# Altium footprint library Resistor.PcbLib: 22 footprints (part 1 of 2)
Each footprint in its own frame and in the unit in brackets; x right, y up, seen from the top. Pads: shape width x height; smd on the part's side, far side on the other; paste and mask are expansions set on the pad; w line width, h text height; cw(c..) or ccw(c..) is an arc to the next point about the centre after c.
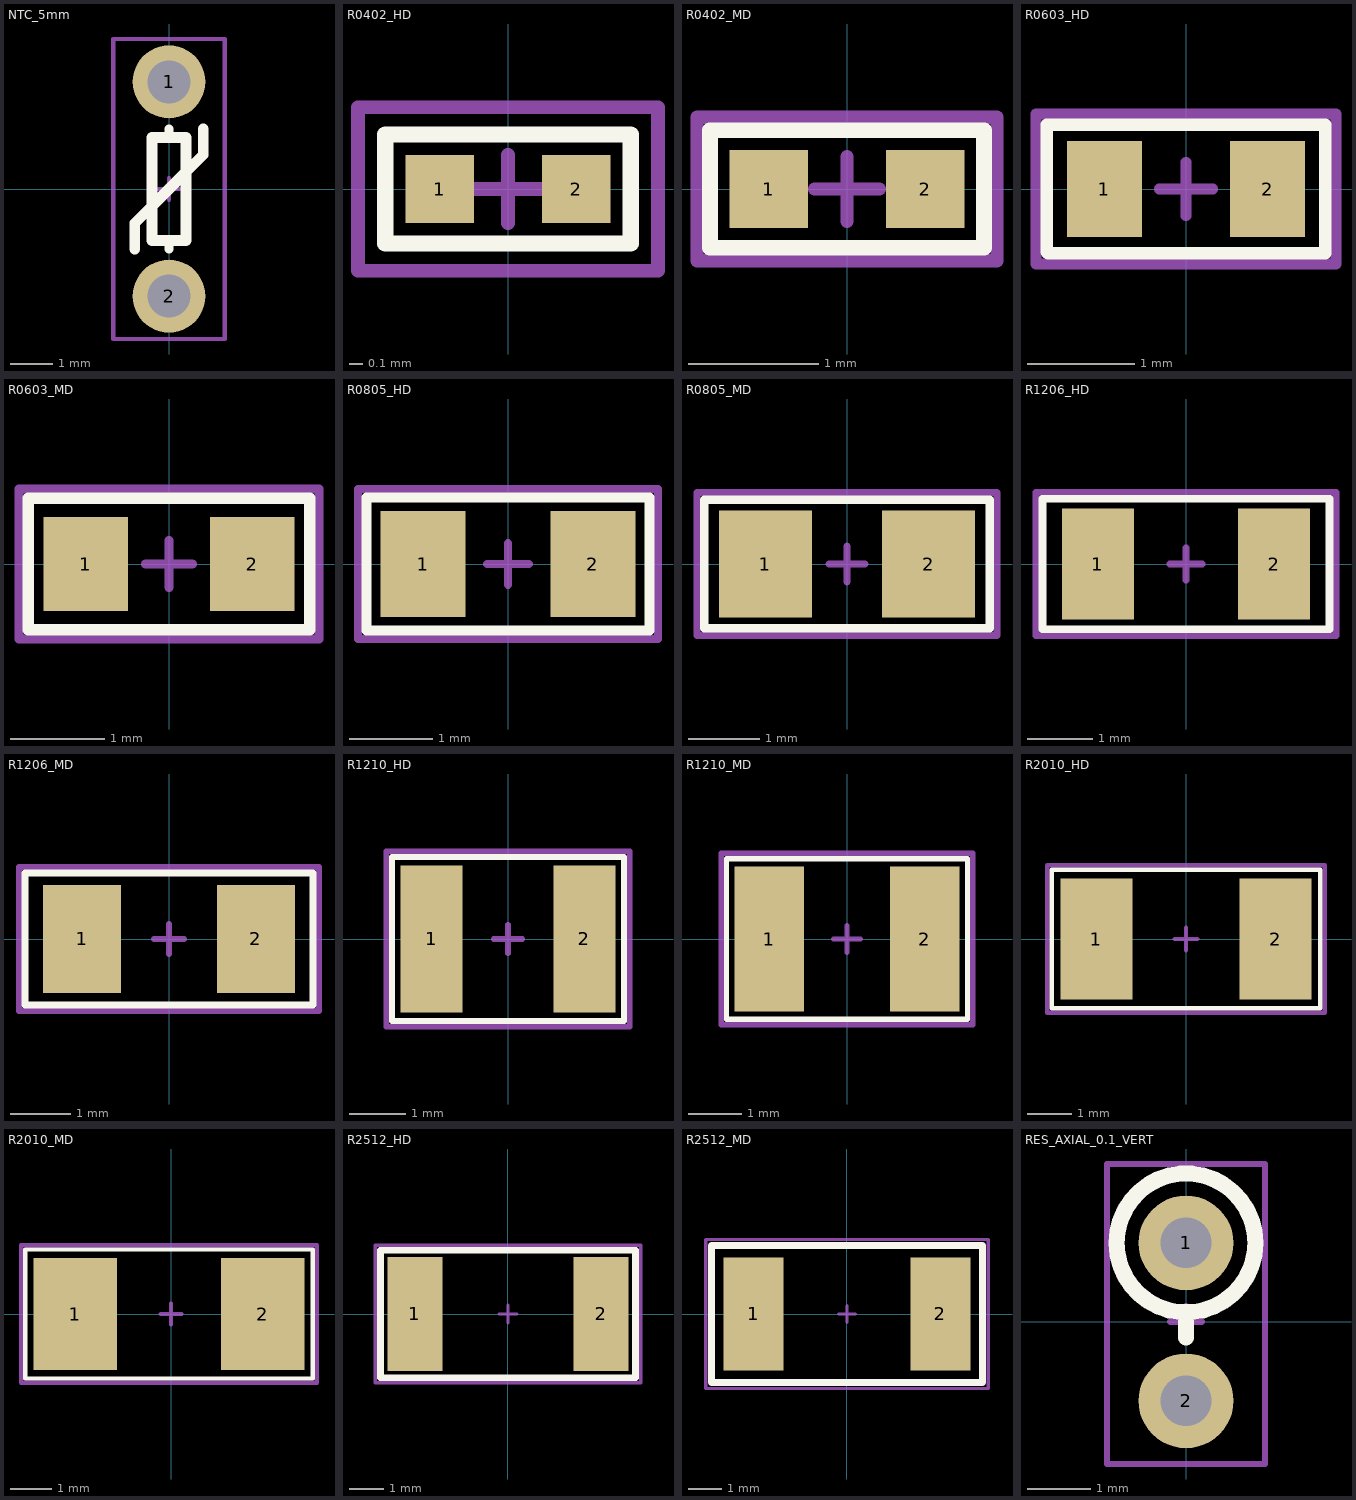
[diagram p0: the footprints below, top view; thin cyan lines are the x and y axes]

## NTC_5mm [mm]
pads (2):
  round 1.7 hole 1 mask+0.127: 1(0,2.5) 2(0,-2.5)
Top Overlay:
  lines w0.2: 0,-1.4 0,-1.2 ; 0,1.2 0,1.4
  lines w0.254: -0.8,-1.4 -0.8,-0.8 0,0 0.8,0.8 0.8,1.4 ; -0.4,-1.2 -0.4,1.2 0.4,1.2 0.4,-1.2 -0.4,-1.2
Mechanical 15:
  lines w0.1: -0.25,0 0.25,0 ; 0,-0.25 0,0.25 ; -1.3,-3.5 -1.3,3.5 1.3,3.5 1.3,-3.5 -1.3,-3.5
3D body "User Library-Disc_CAP d6x3_5_5mm.STEP": height 8.1, standoff -2.02, extent -1.05,-3 1.05,3

## R0402_HD [mm] "Chip Resistor, Body 1.0x0.5mm, IPC High Density"
height 0.6
pads (2):
  rect 0.5x0.5 smd: 1(-0.5,0) 2(0.5,0)
Top Overlay:
  lines w0.12: -0.9,-0.4 -0.9,0.4 0.9,0.4 0.9,-0.4 -0.9,-0.4
Mechanical 15:
  lines w0.1: -0.25,0 0.25,0 ; 0,-0.25 0,0.25 ; -1.1,-0.6 1.1,-0.6 1.1,0.6 -1.1,0.6 -1.1,-0.6
3D body "Flat Chip Resistor 0402(1005M).step": height 0.27, standoff 0, extent -0.5,-0.252 0.5,0.25

## R0402_MD [mm] "Chip Resistor Body 1.0x0.5mm, IPC Medium Density"
height 0.6
pads (2):
  rect 0.6x0.6 smd: 1(-0.6,0) 2(0.6,0)
Top Overlay:
  lines w0.12: -1.05,-0.45 1.05,-0.45 1.05,0.45 -1.05,0.45 -1.05,-0.45
Mechanical 15:
  lines w0.1: -0.25,0 0.25,0 ; 0,-0.25 0,0.25 ; -1.15,-0.55 1.15,-0.55 1.15,0.55 -1.15,0.55 -1.15,-0.55
3D body "Flat Chip Resistor 0402(1005M).step": height 0.27, standoff 0, extent -0.5,-0.252 0.5,0.25

## R0603_HD [mm] "Chip Resistor, Body 1.6x0.8mm, IPC High Density"
height 0.85
pads (2):
  rect 0.7x0.9 smd: 1(-0.762,0) 2(0.762,0)
Top Overlay:
  lines w0.12: -1.3,-0.575 ccw(c-1.275,-0.575) -1.275,-0.6 1.3,-0.6 1.3,0.6 -1.3,0.6 -1.3,-0.575
Mechanical 15:
  lines w0.1: -0.25,0 0.25,0 ; 0,-0.25 0,0.25 ; -1.4,-0.7 -1.4,0.7 1.4,0.7 1.4,-0.7 -1.4,-0.7
3D body "Flat Chip Resistor 0603(1608M).step": height 0.37, standoff 0, extent -0.8,-0.4 0.8,0.402

## R0603_MD [mm] "Chip Resistor, Body 1.6x0.8mm, IPC Medium Density"
height 0.85
pads (2):
  rect 0.9x1 smd: 1(-0.889,0) 2(0.889,0)
Top Overlay:
  lines w0.12: -1.5,-0.7 1.5,-0.7 1.5,0.7 -1.5,0.7 -1.5,-0.7
Mechanical 15:
  lines w0.1: -0.25,0 0.25,0 ; 0,-0.25 0,0.25 ; -1.6,-0.8 1.6,-0.8 1.6,0.8 -1.6,0.8 -1.6,-0.8
3D body "Flat Chip Resistor 0603(1608M).step": height 0.37, standoff 0, extent -0.8,-0.4 0.8,0.402

## R0805_HD [mil] "Chip Resistor, Body 2.0x1.3mm, IPC High Density"
height 43.31
pads (2):
  rect 40x50 smd: 1(-40.15,0) 2(40.15,0)
Top Overlay:
  lines w4.72: -55.12,-31.5 -66.93,-31.5 -66.93,31.5 66.93,31.5 66.93,-19.68 ; -55.12,-31.5 -55.12,-31.5 ; -55.12,-31.5 66.93,-31.5 66.93,-19.68 ; 66.93,-19.68 66.93,-19.68
Mechanical 15:
  lines w3.94: -9.84,0 9.84,0 ; 0,-9.84 0,9.84 ; -70.87,-35.43 70.87,-35.43 70.87,35.43 -70.87,35.43 -70.87,-35.43
3D body "Flat Chip Resistor 0805(2012M).step": height 18.66, standoff 0, extent -39.37,-24.6 39.37,24.69

## R0805_MD [mm] "Chip Resistor, Body 2.0x1.3mm, IPC Medium Density"
height 1.1
pads (2):
  rect 1.3x1.5 smd: 1(-1.143,0) 2(1.143,0)
Top Overlay:
  lines w0.12: -2,-0.9 2,-0.9 2,0.9 -2,0.9 -2,-0.9
Mechanical 15:
  lines w0.1: -0.25,0 0.25,0 ; 0,-0.25 0,0.25 ; -2.1,-1 -2.1,1 2.1,1 2.1,-1 -2.1,-1
3D body "Flat Chip Resistor 0805(2012M).step": height 0.47, standoff 0, extent -1,-0.625 1,0.627

## R1206_HD [mm] "Chip Resistor, Body 3.2x1.6mm, IPC High Density"
height 1.35
pads (2):
  rect 1.1x1.7 smd: 1(-1.35,0) 2(1.35,0)
Top Overlay:
  lines w0.12: -2.2,-1 -2.2,1 2.2,1 2.2,-1 -2.2,-1
Mechanical 15:
  lines w0.1: -0.25,0 0.25,0 ; 0,-0.25 0,0.25 ; -2.3,-1.1 -2.3,1.1 2.3,1.1 2.3,-1.1 -2.3,-1.1
3D body "Flat Chip Resistor 1206(3216M).step": height 0.47, standoff 0, extent -1.55,-0.775 1.55,0.777

## R1206_MD [mm] "Chip Resistor, Body 3.2x1.6mm, IPC Medium Density"
height 1.35
pads (2):
  rect 1.3x1.8 smd: 1(-1.45,0) 2(1.45,0)
Top Overlay:
  lines w0.12: -2.4,-1.1 -2.4,1.1 2.4,1.1 2.4,-1.1 -2.4,-1.1
Mechanical 15:
  lines w0.1: -0.25,0 0.25,0 ; 0,-0.25 0,0.25 ; -2.5,-1.2 -2.5,1.2 2.5,1.2 2.5,-1.2 -2.5,-1.2
3D body "Flat Chip Resistor 1206(3216M).step": height 0.47, standoff 0, extent -1.55,-0.775 1.55,0.777

## R1210_HD [mm] "Chip Resistor, Body 3.2x2.5mm, IPC High Density"
height 0.71
pads (2):
  rect 1.1x2.6 smd: 1(-1.35,0) 2(1.35,0)
Top Overlay:
  lines w0.1: -2.05,-1.45 2.05,-1.45 2.05,1.45 -2.05,1.45 -2.05,-1.45
Mechanical 15:
  lines w0.1: -0.25,0 0.25,0 ; 0,-0.25 0,0.25 ; -2.15,-1.55 2.15,-1.55 2.15,1.55 -2.15,1.55 -2.15,-1.55
3D body "Flat Chip Resistor 1210(3225M).step": height 0.47, standoff 0, extent -1.55,-1.3 1.55,1.302

## R1210_MD [mm] "Chip Resistor, Body 3.2x2.5mm, IPC Medium Density"
height 0.71
pads (2):
  rect 1.3x2.7 smd: 1(-1.45,0) 2(1.45,0)
Top Overlay:
  lines w0.1: -2.25,-1.5 2.25,-1.5 2.25,1.5 -2.25,1.5 -2.25,-1.5
Mechanical 15:
  lines w0.1: -0.25,0 0.25,0 ; 0,-0.25 0,0.25 ; -2.35,-1.6 -2.35,1.6 2.35,1.6 2.35,-1.6 -2.35,-1.6
3D body "Flat Chip Resistor 1210(3225M).step": height 0.47, standoff 0, extent -1.55,-1.3 1.55,1.302

## R2010_HD [mm] "Chip Resistor, Body 5x2.5mm, IPC High Density"
height 0.55
pads (2):
  rect 1.6x2.7 smd: 1(-2,0) 2(2,0)
Top Overlay:
  lines w0.1: -3,-1.55 -3,1.55 3,1.55 3,-1.55 -3,-1.55
Mechanical 15:
  lines w0.1: -0.25,0 0.25,0 ; 0,-0.25 0,0.25 ; -3.1,-1.65 3.1,-1.65 3.1,1.65 -3.1,1.65 -3.1,-1.65
3D body "R2010.STEP": height 0.55, standoff 0, extent -2.5,-1.26 2.5,1.26

## R2010_MD [mm] "Chip Resistor, Body 5x2.5mm, IPC Medium Density"
height 0.55
pads (2):
  rect 2x2.7 smd: 1(-2.3,0) 2(2.2,0)
Top Overlay:
  lines w0.1: -3.5,-1.55 -3.5,1.55 3.4,1.55 3.4,-1.55 -3.5,-1.55
Mechanical 15:
  lines w0.1: -0.25,0 0.25,0 ; 0,-0.25 0,0.25 ; -3.6,-1.65 3.5,-1.65 3.5,1.65 -3.6,1.65 -3.6,-1.65
3D body "R2010.STEP": height 0.55, standoff 0, extent -2.5,-1.26 2.5,1.26

## R2512_HD [mm]
pads (2):
  rect 1.6x3.3 smd: 1(-2.7,0) 2(2.7,0)
Top Overlay:
  lines w0.2: -3.7,1.825 -3.7,-1.85 3.7,-1.85 3.7,1.85 -3.7,1.85
Mechanical 15:
  lines w0.1: -0.25,0 0.25,0 ; 0,-0.25 0,0.25 ; -3.85,-2 3.85,-2 3.85,2 -3.85,2 -3.85,-2
3D body "Flat Chip Resistor 2512.step": height 0.47, standoff 0, extent -3.175,-1.6 3.175,1.602

## R2512_MD [mm]
pads (2):
  rect 1.8x3.4 smd: 1(-2.8,0) 2(2.8,0)
Top Overlay:
  lines w0.2: -4.064,-2.057 4.064,-2.057 4.064,2.057 -4.064,2.057 -4.064,-2.057
Mechanical 15:
  lines w0.1: -0.25,0 0.25,0 ; 0,-0.25 0,0.25 ; -4.242,-2.235 -4.242,2.235 4.242,2.235 4.242,-2.235 -4.242,-2.235
3D body "Flat Chip Resistor 2512.step": height 0.47, standoff 0, extent -3.175,-1.6 3.175,1.602

## RES_AXIAL_0.1_VERT [mm]
pads (2):
  round 1.5 hole 0.8 mask+0.127: 1(0,1.25) 2(0,-1.25)
Top Overlay:
  circle w0.254: c0,1.25 r1.1
  lines w0.254: 0,-0.25 0,0
Mechanical 15:
  lines w0.1: -0.25,0 0.25,0 ; 0,-0.25 0,0.25 ; -1.25,-2.25 -1.25,2.5 1.25,2.5 1.25,-2.25 -1.25,-2.25
3D body "User Library-RESAD250W60L650D230_0_25W.STEP": height 9.83, standoff -2.47, extent -1.15,-1.525 1.15,2.425